# Altium footprint library RLC.PcbLib: 64 footprints (part 4 of 4)
Each footprint in its own frame and in the unit in brackets; x right, y up, seen from the top. Pads: shape width x height; smd on the part's side, far side on the other; paste and mask are expansions set on the pad; w line width, h text height; cw(c..) or ccw(c..) is an arc to the next point about the centre after c.
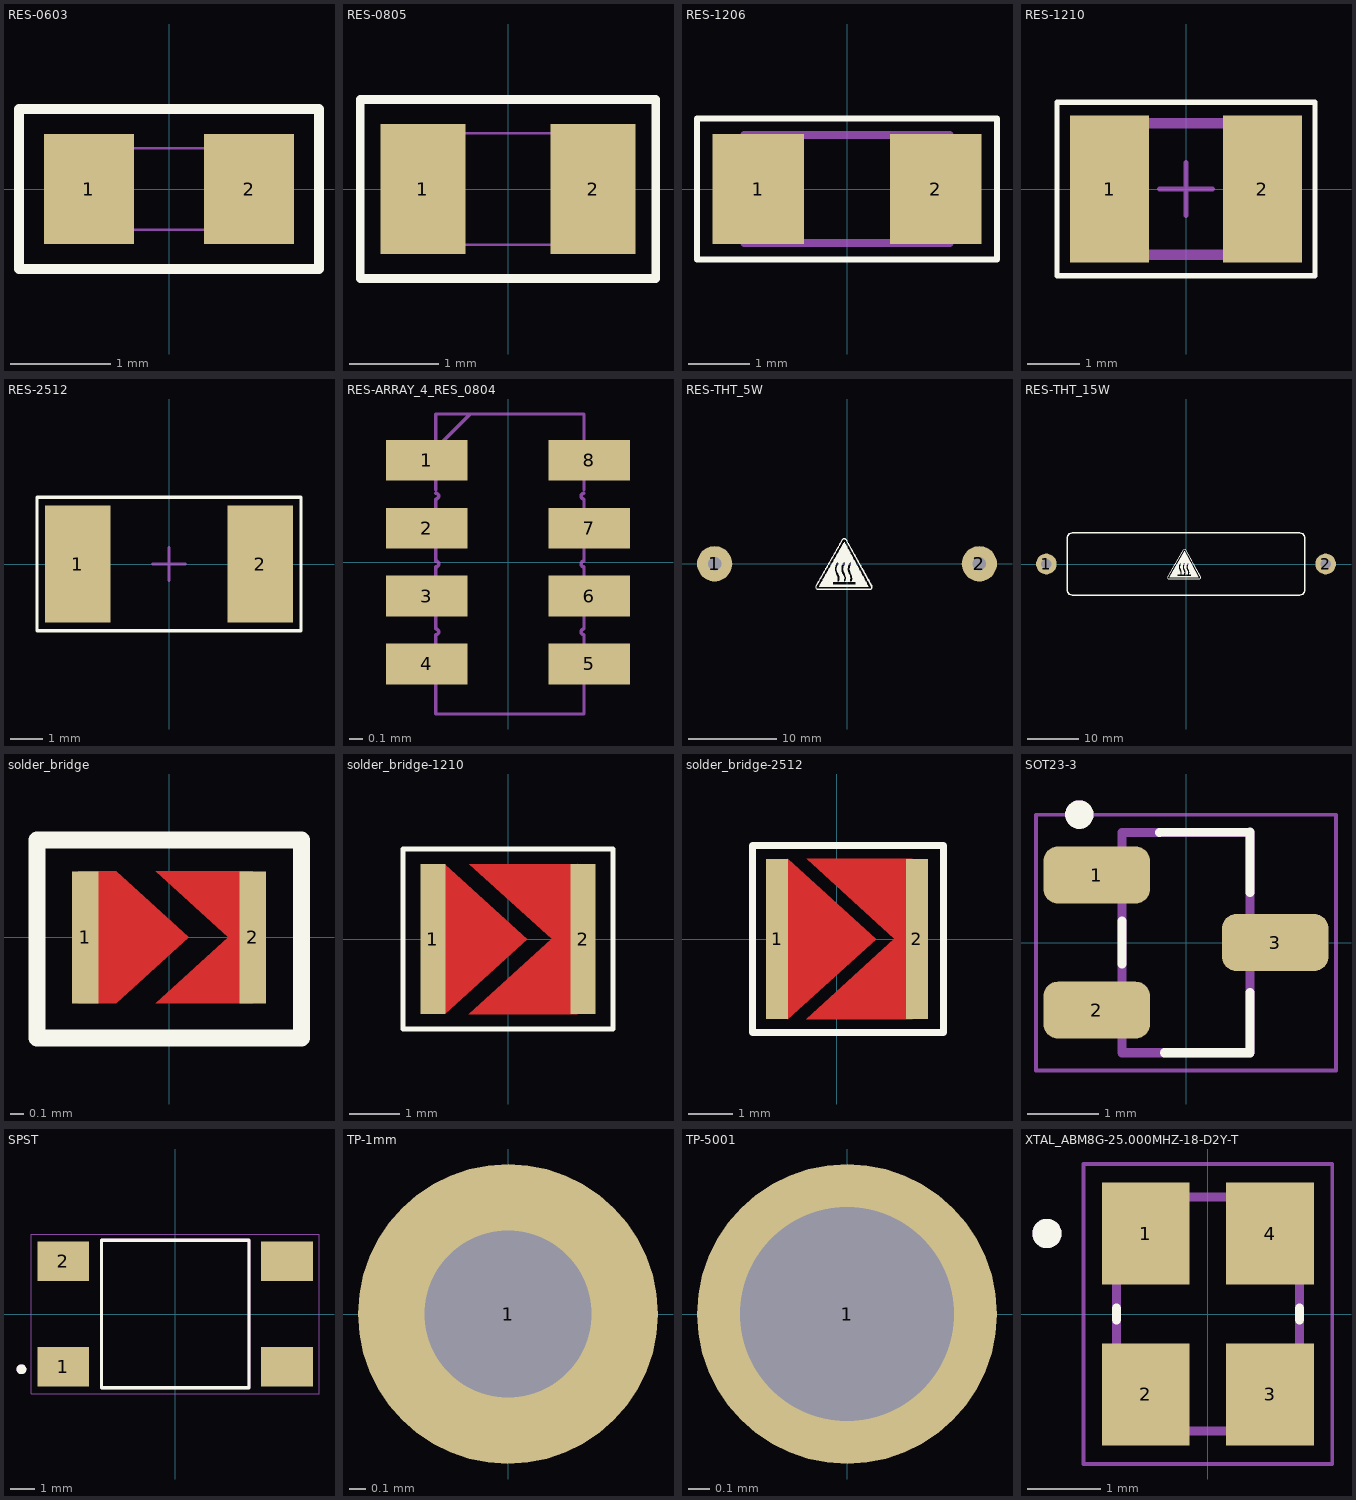
[diagram p3: the footprints below, top view; thin cyan lines are the x and y axes]

## RES-0603 [mm]
pads (2):
  rect 0.9x1.1 smd paste+0 mask+0.06: 1(-0.8,0) 2(0.8,0)
Top Overlay:
  lines w0.1: -1.5,-0.8 -1.5,0.8 1.5,0.8 1.5,-0.8 -1.5,-0.8
Mechanical 13:
  lines w0.025: -0.8,-0.406 -0.8,0.406 ; -0.8,-0.406 0.8,-0.406 ; -0.8,-0.406 -0.394,-0.406 -0.394,0.406 -0.8,0.406 ; -0.8,-0.406 -0.8,0.406 ; -0.8,0.406 0.8,0.406 ; 0.8,-0.406 0.8,0.406 ; 0.8,-0.406 0.8,0.406 ; 0.8,-0.406 0.394,-0.406 0.394,0.406 0.8,0.406
3D body "RC0603N_YAG.step": height 0.71, standoff 0, extent -0.8,-0.406 0.8,0.406

## RES-0805 [mm]
pads (2):
  rect 0.95x1.45 smd paste+0 mask+0.06: 1(-0.95,0) 2(0.95,0)
Top Overlay:
  lines w0.1: -1.65,-1 1.65,-1 1.65,1 -1.65,1 -1.65,-1
Mechanical 13:
  lines w0.025: -1.003,-0.622 -1.003,0.622 ; -1.003,-0.622 1.003,-0.622 ; -1.003,-0.622 -0.495,-0.622 -0.495,0.622 -1.003,0.622 ; -1.003,-0.622 -1.003,0.622 ; -1.003,0.622 1.003,0.622 ; 1.003,-0.622 1.003,0.622 ; 1.003,-0.622 1.003,0.622 ; 1.003,-0.622 0.495,-0.622 0.495,0.622 1.003,0.622
3D body "G-21_MUR.step": height 1.45, standoff 0, extent -1.003,-0.622 1.003,0.622

## RES-1206 [mm]
pads (2):
  rect 1.5x1.8 smd mask+0.06: 1(-1.45,0) 2(1.45,0)
Top Overlay:
  lines w0.1: -2.45,-1.15 -2.45,1.15 2.45,1.15 2.45,-1.15 -2.45,-1.15
Mechanical 13:
  lines w0.127: -1.68,-0.88 -1.68,0.88 1.68,0.88 1.68,-0.88 -1.68,-0.88
3D body "RES-1206.step": height 0.71, standoff 0, extent -1.6,-0.8 1.6,0.8

## RES-1210 [mm]
pads (2):
  rect 1.5x2.8 smd paste+0 mask+0.06: 1(-1.45,0) 2(1.45,0)
Top Overlay:
  lines w0.1: -2.45,-1.65 -2.45,1.65 2.45,1.65 2.45,-1.65 -2.45,-1.65
Mechanical 13:
  lines w0.2: -1.6,-1.25 1.6,-1.25 1.6,1.25 -1.6,1.25 -1.6,-1.25
Mechanical 16:
  lines w0.1: -0.5,0 0.5,0 ; 0,-0.5 0,0.5
3D body "RES-1210.STEP": height 0.6, standoff 0, extent -1.6,-1.25 1.6,1.25

## RES-2512 [mm]
pads (2):
  rect 2x3.6 smd paste+0 mask+0.06: 1(-2.8,0) 2(2.8,0)
Top Overlay:
  lines w0.1: -4.05,-2.05 -4.05,2.05 4.05,2.05 4.05,-2.05 -4.05,-2.05
Mechanical 16:
  lines w0.1: -0.5,0 0.5,0 ; 0,-0.5 0,0.5
3D body "WSL2512 (0.007 to 0.5).stp": height 0.64, standoff 0, extent -3.175,-1.59 3.175,1.59

## RES-ARRAY_4_RES_0804 [mm]
pads (8):
  rect 0.6x0.3 smd mask+0.04: 1(-0.6,0.75) 2(-0.6,0.25) 3(-0.6,-0.25) 4(-0.6,-0.75) 5(0.6,-0.75) 6(0.6,-0.25) 7(0.6,0.25) 8(0.6,0.75)
Mechanical 13:
  lines w0.025: -0.532,0.507 cw(c-0.532,0.486) -0.532,0.464 -0.532,0.007 cw(c-0.532,-0.014) -0.532,-0.036 -0.532,-0.493 cw(c-0.532,-0.514) -0.532,-0.536 -0.532,-0.56 -0.532,-1.119 0.56,-1.119 0.56,-0.56 0.56,-0.536 cw(c0.56,-0.514) 0.56,-0.493 0.56,-0.036 cw(c0.56,-0.014) 0.56,0.007 0.56,0.464 cw(c0.56,0.486) 0.56,0.507 ; -0.532,0.532 -0.532,1.091 0.56,1.091 0.56,0.532 ; -0.532,0.837 -0.278,1.091
3D body "EXB-28V220JX.STEP": height 0.45, standoff 0, extent -0.5,-1 0.5,1

## RES-THT_5W [mm]
pads (2):
  round 4 hole 1.5 mask+0.102: 1(-15,0) 2(15,0)
Top Overlay:
  drawing of 2 lines, arcs and shapes, not listed
Mechanical 1:
  text "(9.50mm x 22.00mm)" at -6.873,4.127 h0.7
Mechanical 16:
  lines w0.1: -0.5,0 0.5,0 ; 0,-0.5 0,0.5
3D body "STA_CB5_STP.step": height 10.49, standoff -2.79, extent -15.444,-5.245 15.924,5.245

## RES-THT_15W [mm]
pads (2):
  round 4 hole 2 mask+0.102: 1(-27,0) 2(27,0)
Top Overlay:
  drawing of 11 lines, arcs and shapes, not listed
Mechanical 16:
  lines w0.1: -0.5,0 0.5,0 ; 0,-0.5 0,0.5
3D body "TUW15J10RE.STEP": height 15.5, standoff -28.06, extent -27.95,-6.25 27.95,6.25

## solder_bridge [mm]
pads (2):
  rect 0.2x1 smd paste+0 mask+0: 1(-0.635,0) 2(0.635,0)
Top Layer:
  region: -0.4,0.5 -0.688,0.5 -0.688,-0.5 -0.4,-0.5 0.151,0
  region: -0.1,0.5 0.635,0.5 0.635,-0.5 -0.1,-0.5 0.45,0
Top Overlay:
  lines w0.127: -0.998,-0.762 -0.998,0.738 1.002,0.738 1.002,-0.762 -0.998,-0.762

## solder_bridge-1210 [mm]
pads (2):
  rect 0.5x3 smd paste+0 mask+0: 1(-1.5,0) 2(1.5,0)
Top Layer:
  region: -0.77,1.5 1.385,1.5 1.385,-1.5 -0.78,-1.5 0.875,0.005
  region: -1.253,1.485 -1.253,-1.494 0.387,-0.003
Top Overlay:
  lines w0.1: -2.1,-1.8 2.1,-1.8 2.1,1.8 -2.1,1.8 -2.1,-1.8
Top Solder:
  rectangle: -1.4,-1.5 1.3,1.5

## solder_bridge-2512 [mm]
pads (2):
  rect 0.501x3.6 smd paste+0 mask+0: 1(-1.345,0)
  rect 0.5x3.6 smd paste+0 mask+0: 2(1.8,0)
Top Layer:
  region: -0.68,1.8 1.7,1.8 1.7,-1.8 -0.69,-1.8 1.295,0.005
  region: -1.1,1.8 -1.1,-1.8 0.887,-0.003
Top Overlay:
  lines w0.152: -1.9,-2.1 -1.9,2.1 2.4,2.1 2.4,-2.1 -1.9,-2.1
Top Solder:
  rectangle: -1.6,-1.8 1.9,1.8

## SOT23-3 [mm]
height 1.25
pads (3):
  rrect50% 1.5x0.8 smd mask+0.07: 1(-1.255,0.95) 2(-1.255,-0.95) 3(1.255,0)
Top Overlay:
  circle w0.2: c-1.5,1.8 r0.1
  lines w0.127: -0.9,-0.3 -0.9,0.3 ; -0.373,1.549 0.899,1.553 0.899,0.701 ; -0.3,-1.55 0.9,-1.55 0.9,-0.7
Mechanical 13:
  circle w0.2: c-1.5,1.8 r0.1
  lines w0.127: -0.9,-1.55 -0.9,1.55 0.9,1.55 0.9,-1.55 -0.9,-1.55
Mechanical 15:
  lines w0.05: -2.11,-1.8 -2.11,1.8 2.11,1.8 2.11,-1.8 -2.11,-1.8
3D body "SOT23.STEP": height 1.25, standoff 0, extent -1.4,-1.45 1.4,1.45

## SPST [mm]
height 5
pads (4):
  rect 2.1x1.6 smd: 1(-4.55,-2.15) 2(-4.55,2.15) ""(4.55,-2.15) ""(4.55,2.15)
Top Overlay:
  circle w0.2: c-6.25,-2.25 r0.1
  lines w0.127: -3,-3 3,-3 3,3 -3,3 -3,-3
Mechanical 1:
  text "6mm X 6mm SPST" at -5.769,3.756 h0.8
Mechanical 13:
  circle w0.2: c-6.25,-2.25 r0.1
  lines w0.127: -3,-3 -3,3 3,3 3,-3 -3,-3
Mechanical 15:
  lines w0.05: -5.85,-3.25 -5.85,3.25 5.85,3.25 5.85,-3.25 -5.85,-3.25
3D body "FSM4JSMATR.STEP": height 5.38, standoff 0, extent -5,-3 5,3

## TP-1mm [mm]
pads (1):
  round 1.8 hole 1 mask+0.08: 1(0,0)

## TP-5001 [mm]
pads (1):
  round 1.4 hole 1 mask+0.08: 1(0,0)
3D body "TP-5002.STEP": height 4.57, standoff -3.05, extent -1.261,-1.27 1.261,1.27

## XTAL_ABM8G-25.000MHZ-18-D2Y-T [mm]
height 1
pads (4):
  rect 1.2x1.4 smd: 1(-0.85,1.1) 2(-0.85,-1.1) 3(0.85,-1.1) 4(0.85,1.1)
Top Overlay:
  circle w0.2: c-2.2,1.1 r0.1
  lines w0.127: -1.25,-0.08 -1.25,0.08 ; 1.25,-0.08 1.25,0.08
Mechanical 13:
  circle w0.2: c-2.2,1.1 r0.1
  lines w0.127: -1.25,-1.6 1.25,-1.6 1.25,1.6 -1.25,1.6 -1.25,-1.6
Mechanical 15:
  lines w0.05: -1.7,-2.05 1.7,-2.05 1.7,2.05 -1.7,2.05 -1.7,-2.05
3D body "step_temp.STEP": height 0.99, standoff 0, extent -1.6,-1.245 1.6,1.245